# Altium footprint library DIP762W50P254L977H451Q8.PcbLib: 1 footprints
Each footprint in its own frame and in the unit in brackets; x right, y up, seen from the top. Pads: shape width x height; smd on the part's side, far side on the other; paste and mask are expansions set on the pad; w line width, h text height; cw(c..) or ccw(c..) is an arc to the next point about the centre after c.
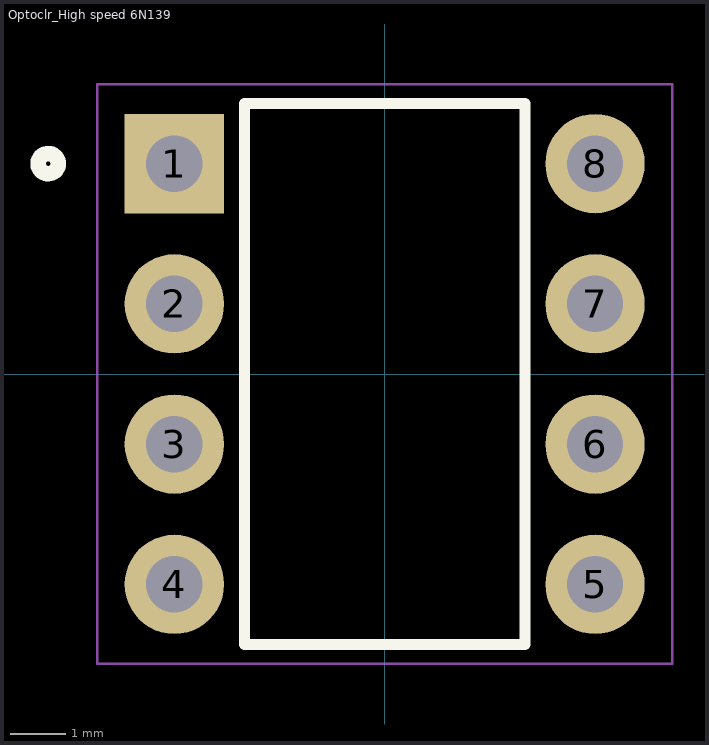
[diagram p0: the footprint, top view; thin cyan lines are the x and y axes]

## Optoclr_High speed 6N139 [mm] "Optoclr_High speed 6N139 DIP-8"
pads (8):
  rect 1.8x1.8 hole 1.02: 1(-3.81,3.81)
  round 1.8 hole 1.02: 2(-3.81,1.27) 3(-3.81,-1.27) 4(-3.81,-3.81) 5(3.81,-3.81) 6(3.81,-1.27) 7(3.81,1.27) 8(3.81,3.81)
Top Overlay:
  circle w0.2: c-6.096,3.81 r0.141
  circle w0.2: c-6.096,3.81 r0.224
  lines w0.2: -2.54,-4.9 2.54,-4.9 2.54,4.9 -2.54,4.9 -2.54,-4.9
Courtyard Top:
  lines w0.05: -5.207,-5.25 5.207,-5.25 5.207,5.25 -5.207,5.25 -5.207,-5.25
3D body "step_temp.STEP": height 5.08, standoff -3.9, extent -3.96,-4.827 3.96,4.828